# Altium footprint library SO-8.PcbLib: 1 footprints
Each footprint in its own frame and in the unit in brackets; x right, y up, seen from the top. Pads: shape width x height; smd on the part's side, far side on the other; paste and mask are expansions set on the pad; w line width, h text height; cw(c..) or ccw(c..) is an arc to the next point about the centre after c.
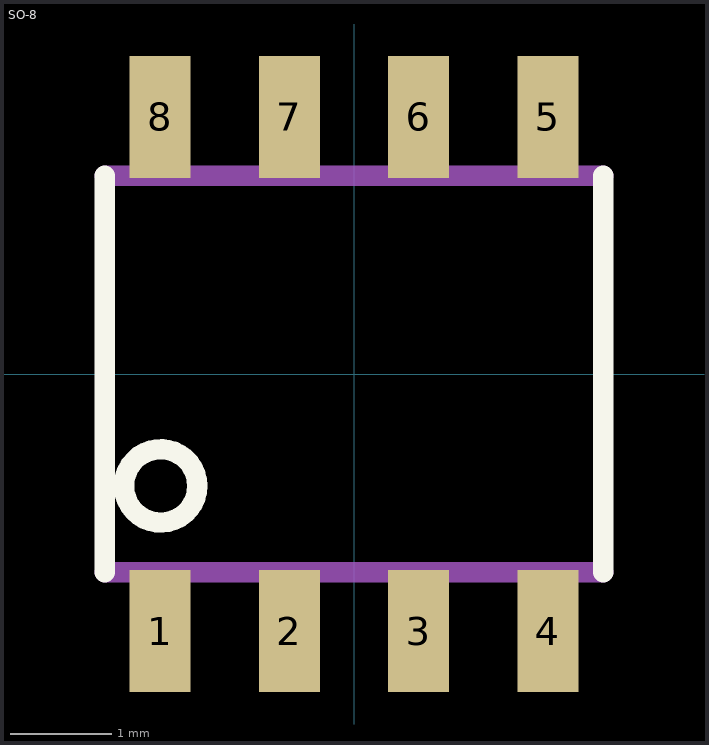
[diagram p0: the footprint, top view; thin cyan lines are the x and y axes]

## SO-8 [mm]
pads (8):
  rect 0.6x1.2 smd: 1(-1.905,-2.528) 2(-0.635,-2.528) 3(0.635,-2.528) 4(1.905,-2.528) 5(1.905,2.528) 6(0.635,2.528) 7(-0.635,2.528) 8(-1.905,2.528)
Top Overlay:
  circle w0.2: c-1.9,-1.1 r0.36
  lines w0.2: -2.45,-1.95 -2.45,1.95 ; 2.45,-1.95 2.45,1.95
Mechanical 13:
  region: -0.39,1.954 -0.892,1.954 -0.892,3 -0.39,3
  region: 0.88,1.954 0.381,1.954 0.381,3 0.88,3
  region: 0.89,-3.004 0.391,-3.004 0.391,-1.95 0.89,-1.95
  region: -0.39,-3.002 -0.891,-3.002 -0.891,-1.95 -0.39,-1.95
  region: -1.65,-3.004 -2.153,-3.004 -2.153,-1.95 -1.65,-1.95
  region: 2.15,-3.005 1.653,-3.005 1.653,-1.95 2.15,-1.95
  region: 2.15,1.95 1.65,1.95 1.65,3 2.15,3
  region: -1.65,1.951 -2.151,1.951 -2.151,3 -1.65,3
  lines w0.2: -2.45,-1.95 2.45,-1.95 ; -2.45,1.95 2.45,1.95